# Altium footprint library diodes_powerdi5.PcbLib: 1 footprints
Each footprint in its own frame and in the unit in brackets; x right, y up, seen from the top. Pads: shape width x height; smd on the part's side, far side on the other; paste and mask are expansions set on the pad; w line width, h text height; cw(c..) or ccw(c..) is an arc to the next point about the centre after c.
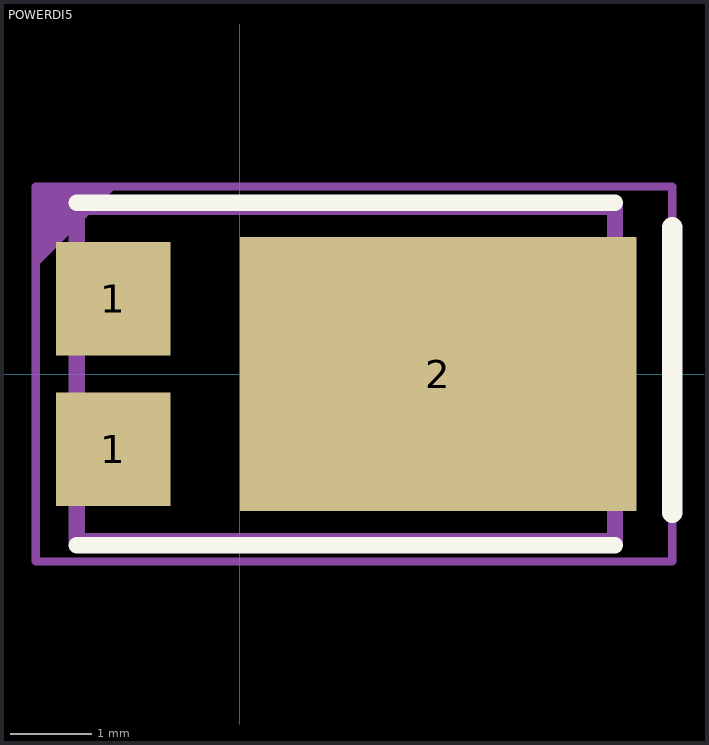
[diagram p0: the footprint, top view; thin cyan lines are the x and y axes]

## POWERDI5 [mm]
height 1.15
pads (3):
  rect 1.4x1.39 smd: 1(-1.552,-0.92) 1(-1.552,0.92)
  rect 4.86x3.36 smd: 2(2.43,0)
Top Overlay:
  lines w0.2: -2,-2.1 4.6,-2.1 ; -2,2.1 4.6,2.1
  lines w0.254: 5.3,-1.7 5.3,1.8
Top 3D Body:
  lines w0.2: -2,-2.05 -2,2.05 4.6,2.05 4.6,-2.05 -2,-2.05
Top Courtyard:
  region: -2.5,2.3 -1.5,2.3 -2.5,1.3
  lines w0.1: -2.5,-2.3 -2.5,2.3 5.3,2.3 5.3,-2.3 -2.5,-2.3
Top Designator (Mech17):
  text ".Designator" at -2.197,-0.358 h1.02
3D body "User Library-PowerDI-5.STEP": height 1.15, standoff 0, extent -1.9,-2 4.7,2.05